# EAGLE library part 2N7002 (library transistor-small-signal)
DUAL N-CHANNEL ENHANCEMENT MODE MOSFET
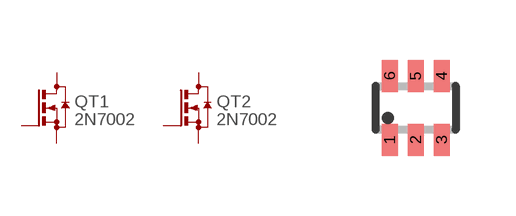
[diagram p0: symbol with the pads of SOT363_PHILIPS; footprint SOT363_PHILIPS]

Designator prefix Q; gates T1=N-MOS T2=N-MOS

## 2N7002DW  [SOT363_PHILIPS]
1  T2:S  pas
2  T2:G  pas
3  T1:D  pas
4  T1:S  pas
5  T1:G  pas
6  T2:D  pas

## Footprint SOT363_PHILIPS (pad centres in mm)
Small Outline Transistor; 6 leads Philips Semiconductors, SOT363.pdf
smd 0.4 x 0.8: 1 -0.65,-0.8; 2 0,-0.8; 3 0.65,-0.8; 4 0.65,0.8; 5 0,0.8; 6 -0.65,0.8